# Altium footprint library Capacitors.PcbLib: 106 footprints (part 3 of 7)
Each footprint in its own frame and in the unit in brackets; x right, y up, seen from the top. Pads: shape width x height; smd on the part's side, far side on the other; paste and mask are expansions set on the pad; w line width, h text height; cw(c..) or ccw(c..) is an arc to the next point about the centre after c.
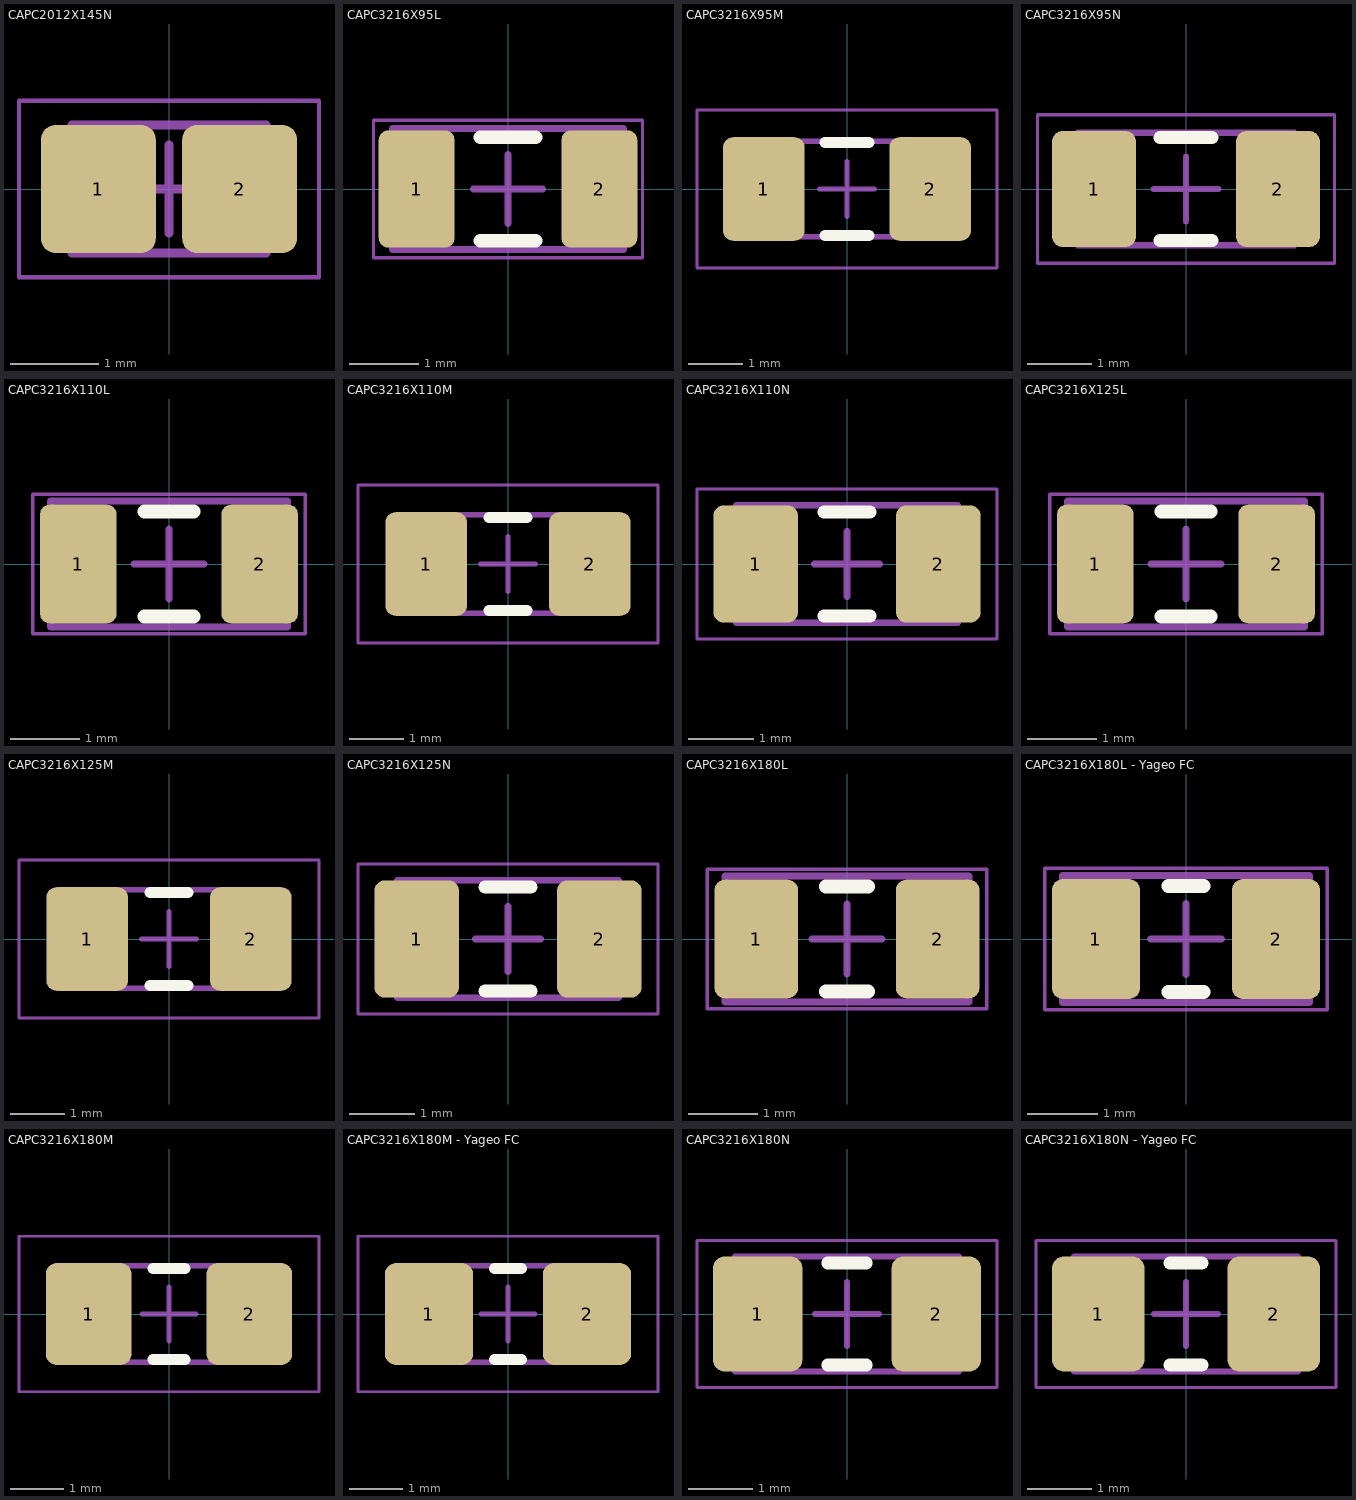
[diagram p2: the footprints below, top view; thin cyan lines are the x and y axes]

## CAPC2012X145N [mm] "Chip Capacitor, EIA 0805, Metric 2012, Body 2.00x1.25mm, IPC Medium Density"
height 1.45
pads (2):
  rrect25% 1.3x1.45 smd paste+0 mask+0.05: 1(-0.8,0) 2(0.8,0)
Top Component Outline:
  lines w0.1: -1.1,-0.725 -1.1,0.725 1.1,0.725 1.1,-0.725 -1.1,-0.725
Top Courtyard:
  lines w0.05: -1.7,-1 -1.7,1 1.7,1 1.7,-1 -1.7,-1
Top Component Center:
  lines w0.1: -0.5,0 0.5,0 ; 0,-0.5 0,0.5
Top Designator:
  text ".Designator" at -4.04,-0.476 h2
Top Assembly:
  lines w0.1: -1.1,-0.725 -1.1,0.725 1.1,0.725 1.1,-0.725 -1.1,-0.725
  text ".Designator" at -4.04,-0.476 h2
3D body "CAPC2012X145N.step": height 1.45, standoff 0, extent -1.1,-0.725 1.1,0.725

## CAPC3216X95L [mm] "Chip Capacitor, EIA 1206, Metric 3216, Body 3.20x1.60mm, IPC High Density"
height 0.95
pads (2):
  rrect25% 1.1x1.7 smd paste+0 mask+0.05: 1(-1.325,0) 2(1.325,0)
Top Overlay:
  lines w0.2: -0.4,-0.75 0.4,-0.75 ; -0.4,0.75 0.4,0.75
Top Component Outline:
  lines w0.1: -1.675,-0.875 -1.675,0.875 1.675,0.875 1.675,-0.875 -1.675,-0.875
Top Courtyard:
  lines w0.05: -1.95,-1 1.95,-1 1.95,1 -1.95,1 -1.95,-1
Top Component Center:
  lines w0.1: -0.5,0 0.5,0 ; 0,-0.5 0,0.5
Top Designator:
  text ".Designator" at -4.04,-0.476 h2
Top Assembly:
  lines w0.1: -1.675,-0.875 1.675,-0.875 1.675,0.875 -1.675,0.875 -1.675,-0.875
  text ".Designator" at -4.04,-0.476 h2
3D body "CAPC3216X95N.step": height 0.95, standoff 0, extent -1.675,-0.875 1.675,0.875

## CAPC3216X95M [mm] "Chip Capacitor, EIA 1206, Metric 3216, Body 3.20x1.60mm, IPC Low Density"
height 0.95
pads (2):
  rrect25% 1.5x1.9 smd paste+0 mask+0.05: 1(-1.525,0) 2(1.525,0)
Top Overlay:
  lines w0.2: -0.4,-0.85 0.4,-0.85 ; -0.4,0.85 0.4,0.85
Top Component Outline:
  lines w0.1: -1.675,-0.875 1.675,-0.875 1.675,0.875 -1.675,0.875 -1.675,-0.875
Top Courtyard:
  lines w0.05: -2.75,-1.45 -2.75,1.45 2.75,1.45 2.75,-1.45 -2.75,-1.45
Top Component Center:
  lines w0.1: -0.5,0 0.5,0 ; 0,-0.5 0,0.5
Top Designator:
  text ".Designator" at -4.04,-0.476 h2
Top Assembly:
  lines w0.1: -1.675,-0.875 -1.675,0.875 1.675,0.875 1.675,-0.875 -1.675,-0.875
  text ".Designator" at -4.04,-0.476 h2
3D body "CAPC3216X95N.step": height 0.95, standoff 0, extent -1.675,-0.875 1.675,0.875

## CAPC3216X95N [mm] "Chip Capacitor, EIA 1206, Metric 3216, Body 3.20x1.60mm, IPC Medium Density"
height 0.95
pads (2):
  rrect25% 1.3x1.8 smd paste+0 mask+0.05: 1(-1.425,0) 2(1.425,0)
Top Overlay:
  lines w0.2: -0.4,-0.8 0.4,-0.8 ; -0.4,0.8 0.4,0.8
Top Component Outline:
  lines w0.1: -1.675,-0.875 1.675,-0.875 1.675,0.875 -1.675,0.875 -1.675,-0.875
Top Courtyard:
  lines w0.05: -2.3,-1.15 2.3,-1.15 2.3,1.15 -2.3,1.15 -2.3,-1.15
Top Component Center:
  lines w0.1: -0.5,0 0.5,0 ; 0,-0.5 0,0.5
Top Designator:
  text ".Designator" at -4.04,-0.476 h2
Top Assembly:
  lines w0.1: -1.675,-0.875 1.675,-0.875 1.675,0.875 -1.675,0.875 -1.675,-0.875
  text ".Designator" at -4.04,-0.476 h2
3D body "CAPC3216X95N.step": height 0.95, standoff 0, extent -1.675,-0.875 1.675,0.875

## CAPC3216X110L [mm] "Chip Capacitor, EIA 1206, Metric 3216, Body 3.20x1.60mm, IPC High Density"
height 1.1
pads (2):
  rrect25% 1.1x1.7 smd paste+0 mask+0.05: 1(-1.3,0) 2(1.3,0)
Top Overlay:
  lines w0.2: -0.35,-0.75 0.35,-0.75 ; -0.35,0.75 0.35,0.75
Top Component Outline:
  lines w0.1: -1.7,-0.9 -1.7,0.9 1.7,0.9 1.7,-0.9 -1.7,-0.9
Top Courtyard:
  lines w0.05: -1.95,-1 -1.95,1 1.95,1 1.95,-1 -1.95,-1
Top Component Center:
  lines w0.1: -0.5,0 0.5,0 ; 0,-0.5 0,0.5
Top Designator:
  text ".Designator" at -4.04,-0.476 h2
Top Assembly:
  lines w0.1: -1.7,-0.9 -1.7,0.9 1.7,0.9 1.7,-0.9 -1.7,-0.9
  text ".Designator" at -4.04,-0.476 h2
3D body "CAPC3216X110N.step": height 1.1, standoff 0, extent -1.7,-0.9 1.7,0.9

## CAPC3216X110M [mm] "Chip Capacitor, EIA 1206, Metric 3216, Body 3.20x1.60mm, IPC Low Density"
height 1.1
pads (2):
  rrect25% 1.5x1.9 smd paste+0 mask+0.05: 1(-1.5,0) 2(1.5,0)
Top Overlay:
  lines w0.2: -0.35,-0.85 0.35,-0.85 ; -0.35,0.85 0.35,0.85
Top Component Outline:
  lines w0.1: -1.7,-0.9 1.7,-0.9 1.7,0.9 -1.7,0.9 -1.7,-0.9
Top Courtyard:
  lines w0.05: -2.75,-1.45 2.75,-1.45 2.75,1.45 -2.75,1.45 -2.75,-1.45
Top Component Center:
  lines w0.1: -0.5,0 0.5,0 ; 0,-0.5 0,0.5
Top Designator:
  text ".Designator" at -4.04,-0.476 h2
Top Assembly:
  lines w0.1: -1.7,-0.9 1.7,-0.9 1.7,0.9 -1.7,0.9 -1.7,-0.9
  text ".Designator" at -4.04,-0.476 h2
3D body "CAPC3216X110N.step": height 1.1, standoff 0, extent -1.7,-0.9 1.7,0.9

## CAPC3216X110N [mm] "Chip Capacitor, EIA 1206, Metric 3216, Body 3.20x1.60mm, IPC Medium Density"
height 1.1
pads (2):
  rrect25% 1.3x1.8 smd paste+0 mask+0.05: 1(-1.4,0) 2(1.4,0)
Top Overlay:
  lines w0.2: -0.35,-0.8 0.35,-0.8 ; -0.35,0.8 0.35,0.8
Top Component Outline:
  lines w0.1: -1.7,-0.9 -1.7,0.9 1.7,0.9 1.7,-0.9 -1.7,-0.9
Top Courtyard:
  lines w0.05: -2.3,-1.15 -2.3,1.15 2.3,1.15 2.3,-1.15 -2.3,-1.15
Top Component Center:
  lines w0.1: -0.5,0 0.5,0 ; 0,-0.5 0,0.5
Top Designator:
  text ".Designator" at -4.04,-0.476 h2
Top Assembly:
  lines w0.1: -1.7,-0.9 -1.7,0.9 1.7,0.9 1.7,-0.9 -1.7,-0.9
  text ".Designator" at -4.04,-0.476 h2
3D body "CAPC3216X110N.step": height 1.1, standoff 0, extent -1.7,-0.9 1.7,0.9

## CAPC3216X125L [mm] "Chip Capacitor, EIA 1206, Metric 3216, Body 3.20x1.60mm, IPC High Density"
height 1.25
pads (2):
  rrect25% 1.1x1.7 smd paste+0 mask+0.05: 1(-1.3,0) 2(1.3,0)
Top Overlay:
  lines w0.2: -0.35,-0.75 0.35,-0.75 ; -0.35,0.75 0.35,0.75
Top Component Outline:
  lines w0.1: -1.7,-0.9 1.7,-0.9 1.7,0.9 -1.7,0.9 -1.7,-0.9
Top Courtyard:
  lines w0.05: -1.95,-1 1.95,-1 1.95,1 -1.95,1 -1.95,-1
Top Component Center:
  lines w0.1: -0.5,0 0.5,0 ; 0,-0.5 0,0.5
Top Designator:
  text ".Designator" at -4.04,-0.476 h2
Top Assembly:
  lines w0.1: -1.7,-0.9 1.7,-0.9 1.7,0.9 -1.7,0.9 -1.7,-0.9
  text ".Designator" at -4.04,-0.476 h2
3D body "CAPC3216X125N.step": height 1.25, standoff 0, extent -1.7,-0.9 1.7,0.9

## CAPC3216X125M [mm] "Chip Capacitor, EIA 1206, Metric 3216, Body 3.20x1.60mm, IPC Low Density"
height 1.25
pads (2):
  rrect25% 1.5x1.9 smd paste+0 mask+0.05: 1(-1.5,0) 2(1.5,0)
Top Overlay:
  lines w0.2: -0.35,-0.85 0.35,-0.85 ; -0.35,0.85 0.35,0.85
Top Component Outline:
  lines w0.1: -1.7,-0.9 1.7,-0.9 1.7,0.9 -1.7,0.9 -1.7,-0.9
Top Courtyard:
  lines w0.05: -2.75,-1.45 -2.75,1.45 2.75,1.45 2.75,-1.45 -2.75,-1.45
Top Component Center:
  lines w0.1: -0.5,0 0.5,0 ; 0,-0.5 0,0.5
Top Designator:
  text ".Designator" at -4.04,-0.476 h2
Top Assembly:
  lines w0.1: -1.7,-0.9 -1.7,0.9 1.7,0.9 1.7,-0.9 -1.7,-0.9
  text ".Designator" at -4.04,-0.476 h2
3D body "CAPC3216X125N.step": height 1.25, standoff 0, extent -1.7,-0.9 1.7,0.9

## CAPC3216X125N [mm] "Chip Capacitor, EIA 1206, Metric 3216, Body 3.20x1.60mm, IPC Medium Density"
height 1.25
pads (2):
  rrect25% 1.3x1.8 smd paste+0 mask+0.05: 1(-1.4,0) 2(1.4,0)
Top Overlay:
  lines w0.2: -0.35,-0.8 0.35,-0.8 ; -0.35,0.8 0.35,0.8
Top Component Outline:
  lines w0.1: -1.7,-0.9 -1.7,0.9 1.7,0.9 1.7,-0.9 -1.7,-0.9
Top Courtyard:
  lines w0.05: -2.3,-1.15 2.3,-1.15 2.3,1.15 -2.3,1.15 -2.3,-1.15
Top Component Center:
  lines w0.1: -0.5,0 0.5,0 ; 0,-0.5 0,0.5
Top Designator:
  text ".Designator" at -4.04,-0.476 h2
Top Assembly:
  lines w0.1: -1.7,-0.9 1.7,-0.9 1.7,0.9 -1.7,0.9 -1.7,-0.9
  text ".Designator" at -4.04,-0.476 h2
3D body "CAPC3216X125N.step": height 1.25, standoff 0, extent -1.7,-0.9 1.7,0.9

## CAPC3216X180L [mm] "Chip Capacitor, EIA 1206, Metric 3216, Body 3.20x1.60mm, IPC High Density"
height 1.8
pads (2):
  rrect25% 1.2x1.7 smd paste+0 mask+0.05: 1(-1.3,0) 2(1.3,0)
Top Overlay:
  lines w0.2: -0.3,-0.75 0.3,-0.75 ; -0.3,0.75 0.3,0.75
Top Component Outline:
  lines w0.1: -1.75,-0.9 1.75,-0.9 1.75,0.9 -1.75,0.9 -1.75,-0.9
Top Courtyard:
  lines w0.05: -2,-1 2,-1 2,1 -2,1 -2,-1
Top Component Center:
  lines w0.1: -0.5,0 0.5,0 ; 0,-0.5 0,0.5
Top Designator:
  text ".Designator" at -4.04,-0.476 h2
Top Assembly:
  lines w0.1: -1.75,-0.9 1.75,-0.9 1.75,0.9 -1.75,0.9 -1.75,-0.9
  text ".Designator" at -4.04,-0.476 h2
3D body "CAPC3216X180N.step": height 1.8, standoff 0, extent -1.75,-0.9 1.75,0.9

## CAPC3216X180L - Yageo FC [mm] "Chip Capacitor, EIA 1206, Metric 3216, Body 3.20x1.60mm, IPC High Density"
height 1.8
pads (2):
  rrect25% 1.25x1.7 smd paste+0 mask+0.05: 1(-1.275,0) 2(1.275,0)
Top Overlay:
  lines w0.2: -0.25,-0.75 0.25,-0.75 ; -0.25,0.75 0.25,0.75
Top Component Outline:
  lines w0.1: -1.75,-0.9 1.75,-0.9 1.75,0.9 -1.75,0.9 -1.75,-0.9
Top Courtyard:
  lines w0.05: -2,-1 2,-1 2,1 -2,1 -2,-1
Top Component Center:
  lines w0.1: -0.5,0 0.5,0 ; 0,-0.5 0,0.5
Top Designator:
  text ".Designator" at -4.04,-0.476 h2
Top Assembly:
  lines w0.1: -1.75,-0.9 1.75,-0.9 1.75,0.9 -1.75,0.9 -1.75,-0.9
  text ".Designator" at -4.04,-0.476 h2
3D body "CAPC3216X180N.step": height 1.8, standoff 0, extent -1.75,-0.9 1.75,0.9

## CAPC3216X180M [mm] "Chip Capacitor, EIA 1206, Metric 3216, Body 3.20x1.60mm, IPC Low Density"
height 1.8
pads (2):
  rrect25% 1.6x1.9 smd paste+0 mask+0.05: 1(-1.5,0) 2(1.5,0)
Top Overlay:
  lines w0.2: -0.3,-0.85 0.3,-0.85 ; -0.3,0.85 0.3,0.85
Top Component Outline:
  lines w0.1: -1.75,-0.9 1.75,-0.9 1.75,0.9 -1.75,0.9 -1.75,-0.9
Top Courtyard:
  lines w0.05: -2.8,-1.45 -2.8,1.45 2.8,1.45 2.8,-1.45 -2.8,-1.45
Top Component Center:
  lines w0.1: -0.5,0 0.5,0 ; 0,-0.5 0,0.5
Top Designator:
  text ".Designator" at -4.04,-0.476 h2
Top Assembly:
  lines w0.1: -1.75,-0.9 -1.75,0.9 1.75,0.9 1.75,-0.9 -1.75,-0.9
  text ".Designator" at -4.04,-0.476 h2
3D body "CAPC3216X180N.step": height 1.8, standoff 0, extent -1.75,-0.9 1.75,0.9

## CAPC3216X180M - Yageo FC [mm] "Chip Capacitor, EIA 1206, Metric 3216, Body 3.20x1.60mm, IPC Low Density"
height 1.8
pads (2):
  rrect25% 1.65x1.9 smd paste+0 mask+0.05: 1(-1.475,0) 2(1.475,0)
Top Overlay:
  lines w0.2: -0.25,-0.85 0.25,-0.85 ; -0.25,0.85 0.25,0.85
Top Component Outline:
  lines w0.1: -1.75,-0.9 -1.75,0.9 1.75,0.9 1.75,-0.9 -1.75,-0.9
Top Courtyard:
  lines w0.05: -2.8,-1.45 -2.8,1.45 2.8,1.45 2.8,-1.45 -2.8,-1.45
Top Component Center:
  lines w0.1: -0.5,0 0.5,0 ; 0,-0.5 0,0.5
Top Designator:
  text ".Designator" at -4.04,-0.476 h2
Top Assembly:
  lines w0.1: -1.75,-0.9 -1.75,0.9 1.75,0.9 1.75,-0.9 -1.75,-0.9
  text ".Designator" at -4.04,-0.476 h2
3D body "CAPC3216X180N.step": height 1.8, standoff 0, extent -1.75,-0.9 1.75,0.9

## CAPC3216X180N [mm] "Chip Capacitor, EIA 1206, Metric 3216, Body 3.20x1.60mm, IPC Medium Density"
height 1.8
pads (2):
  rrect25% 1.4x1.8 smd paste+0 mask+0.05: 1(-1.4,0) 2(1.4,0)
Top Overlay:
  lines w0.2: -0.3,-0.8 0.3,-0.8 ; -0.3,0.8 0.3,0.8
Top Component Outline:
  lines w0.1: -1.75,-0.9 -1.75,0.9 1.75,0.9 1.75,-0.9 -1.75,-0.9
Top Courtyard:
  lines w0.05: -2.35,-1.15 -2.35,1.15 2.35,1.15 2.35,-1.15 -2.35,-1.15
Top Component Center:
  lines w0.1: -0.5,0 0.5,0 ; 0,-0.5 0,0.5
Top Designator:
  text ".Designator" at -4.04,-0.476 h2
Top Assembly:
  lines w0.1: -1.75,-0.9 -1.75,0.9 1.75,0.9 1.75,-0.9 -1.75,-0.9
  text ".Designator" at -4.04,-0.476 h2
3D body "CAPC3216X180N.step": height 1.8, standoff 0, extent -1.75,-0.9 1.75,0.9

## CAPC3216X180N - Yageo FC [mm] "Chip Capacitor, EIA 1206, Metric 3216, Body 3.20x1.60mm, IPC Medium Density"
height 1.8
pads (2):
  rrect25% 1.45x1.8 smd paste+0 mask+0.05: 1(-1.375,0) 2(1.375,0)
Top Overlay:
  lines w0.2: -0.25,-0.8 0.25,-0.8 ; -0.25,0.8 0.25,0.8
Top Component Outline:
  lines w0.1: -1.75,-0.9 -1.75,0.9 1.75,0.9 1.75,-0.9 -1.75,-0.9
Top Courtyard:
  lines w0.05: -2.35,-1.15 -2.35,1.15 2.35,1.15 2.35,-1.15 -2.35,-1.15
Top Component Center:
  lines w0.1: -0.5,0 0.5,0 ; 0,-0.5 0,0.5
Top Designator:
  text ".Designator" at -4.04,-0.476 h2
Top Assembly:
  lines w0.1: -1.75,-0.9 -1.75,0.9 1.75,0.9 1.75,-0.9 -1.75,-0.9
  text ".Designator" at -4.04,-0.476 h2
3D body "CAPC3216X180N.step": height 1.8, standoff 0, extent -1.75,-0.9 1.75,0.9